# Altium schematic symbol library NUT.Schlib: 1 symbol
Pins are listed as number, name and electrical type; pins without a type are passive.

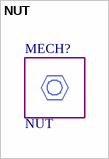
[diagram p0: symbol NUT]

## NUT
designator MECH?